# Altium footprint library C1206.PcbLib: 1 footprints
Each footprint in its own frame and in the unit in brackets; x right, y up, seen from the top. Pads: shape width x height; smd on the part's side, far side on the other; paste and mask are expansions set on the pad; w line width, h text height; cw(c..) or ccw(c..) is an arc to the next point about the centre after c.
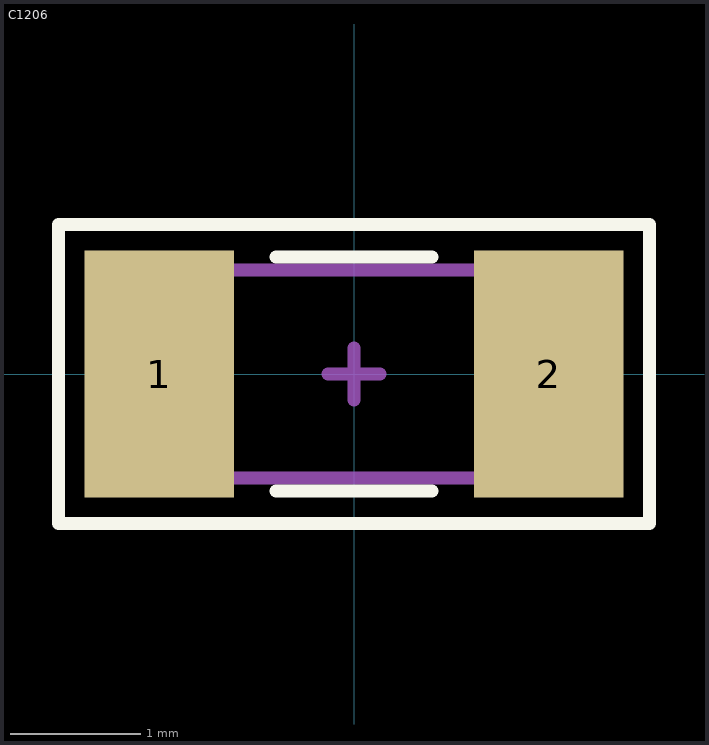
[diagram p0: the footprint, top view; thin cyan lines are the x and y axes]

## C1206 [mm] "A generic C1206 footprint"
height 2
pads (2):
  rect 1.15x1.9 smd mask+0: 1(-1.5,0) 2(1.5,0)
Top Overlay:
  lines w0.1: -0.6,-0.9 0.6,-0.9 ; -0.6,0.9 0.6,0.9 0.3,0.9 -0.4,0.9 -0.5,0.9 ; -2.275,-1.15 2.275,-1.15 2.275,1.15 -2.275,1.15 -2.275,-1.15
Top Designator:
  text ".Designator" at -7.618,-0.508 h1.52
Mechanical 13:
  lines w0.1: -1.6,-0.8 1.6,-0.8 1.6,0.8 -1.6,0.8 -1.6,-0.8
Mechanical 15:
  lines w0.1: -0.2,0 0,0 ; 0,-0.2 0,0 ; 0,0.2 0,0 ; 0.2,0 0,0
3D body "CAP1206.stp": height 1.78, standoff 0, extent -1.6,-0.8 1.6,0.8